# Altium schematic symbol library 691 243 300 0xx.SchLib: 8 symbols
Pins are listed as number, name and electrical type; pins without a type are passive.

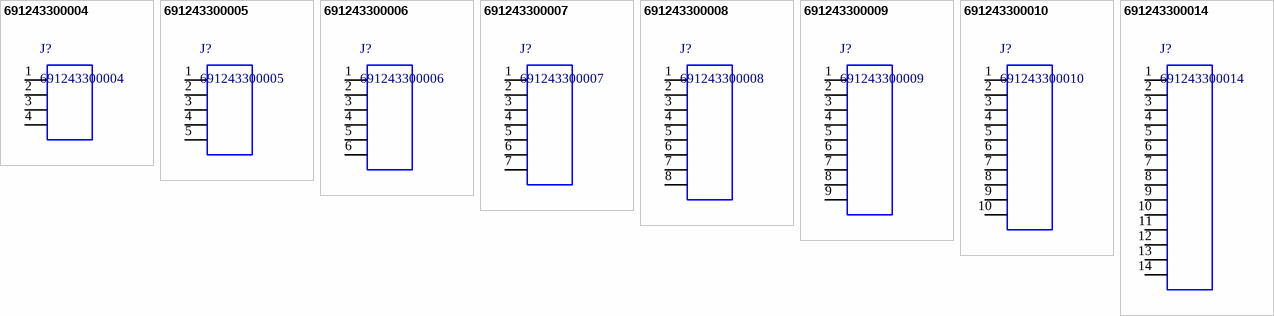
[diagram p0: symbols 691243300004 to 691243300014]

## 691243300004
designator J?
WR-TBL Vertical Cable Entry With Rising Cage Clamp,Serie 2433 - 3.81 mm; Manufacturer: Wurth Elektronik; ComponentLink1 Description: Manufacturer; ComponentLink2 Description: Datasheet; ComponentLink1URL: http://www.we-online.de; ComponentLink2URL: http://katalog.we-online.de/em/datasheet/6912433000XX.pdf; Created by: Baojun Chen; Created Date: 9.Sep.2015; partNo: 691243300004
footprint 691243300004 (Serie 2433 - 3.81 mm _ 4 pins)
pins: 1, 2, 3, 4

## 691243300005
designator J?
WR-TBL Vertical Cable Entry With Rising Cage Clamp,Serie 2433 - 3.81 mm; Manufacturer: Wurth Elektronik; ComponentLink1 Description: Manufacturer; ComponentLink2 Description: Datasheet; ComponentLink1URL: http://www.we-online.de; ComponentLink2URL: http://katalog.we-online.de/em/datasheet/6912433000XX.pdf; Created by: Baojun Chen; Created Date: 9.Sep.2015; partNo: 691243300005
footprint 691243300005 (Serie 2433 - 3.81 mm _ 5 pins)
pins: 1, 2, 3, 4, 5

## 691243300006
designator J?
WR-TBL Vertical Cable Entry With Rising Cage Clamp,Serie 2433 - 3.81 mm; Manufacturer: Wurth Elektronik; ComponentLink1 Description: Manufacturer; ComponentLink2 Description: Datasheet; ComponentLink1URL: http://www.we-online.de; ComponentLink2URL: http://katalog.we-online.de/em/datasheet/6912433000XX.pdf; Created by: Baojun Chen; Created Date: 9.Sep.2015; partNo: 691243300006
footprint 691243300006 (Serie 2433 - 3.81 mm _ 6 pins)
pins: 1, 2, 3, 4, 5, 6

## 691243300007
designator J?
WR-TBL Vertical Cable Entry With Rising Cage Clamp,Serie 2433 - 3.81 mm; Manufacturer: Wurth Elektronik; ComponentLink1 Description: Manufacturer; ComponentLink2 Description: Datasheet; ComponentLink1URL: http://www.we-online.de; ComponentLink2URL: http://katalog.we-online.de/em/datasheet/6912433000XX.pdf; Created by: Baojun Chen; Created Date: 9.Sep.2015; partNo: 691243300007
footprint 691243300007 (Serie 2433 - 3.81 mm _ 7 pins)
pins: 1, 2, 3, 4, 5, 6, 7

## 691243300008
designator J?
WR-TBL Vertical Cable Entry With Rising Cage Clamp,Serie 2433 - 3.81 mm; Manufacturer: Wurth Elektronik; ComponentLink1 Description: Manufacturer; ComponentLink2 Description: Datasheet; ComponentLink1URL: http://www.we-online.de; ComponentLink2URL: http://katalog.we-online.de/em/datasheet/6912433000XX.pdf; Created by: Baojun Chen; Created Date: 9.Sep.2015; partNo: 691243300008
footprint 691243300008 (Serie 2433 - 3.81 mm _ 8 pins)
pins: 1, 2, 3, 4, 5, 6, 7, 8

## 691243300009
designator J?
WR-TBL Vertical Cable Entry With Rising Cage Clamp,Serie 2433 - 3.81 mm; Manufacturer: Wurth Elektronik; ComponentLink1 Description: Manufacturer; ComponentLink2 Description: Datasheet; ComponentLink1URL: http://www.we-online.de; ComponentLink2URL: http://katalog.we-online.de/em/datasheet/6912433000XX.pdf; Created by: Baojun Chen; Created Date: 9.Sep.2015; partNo: 691243300009
footprint 691243300009 (Serie 2433 - 3.81 mm _ 9 pins)
pins: 1, 2, 3, 4, 5, 6, 7, 8, 9

## 691243300010
designator J?
WR-TBL Vertical Cable Entry With Rising Cage Clamp,Serie 2433 - 3.81 mm; Manufacturer: Wurth Elektronik; ComponentLink1 Description: Manufacturer; ComponentLink2 Description: Datasheet; ComponentLink1URL: http://www.we-online.de; ComponentLink2URL: http://katalog.we-online.de/em/datasheet/6912433000XX.pdf; Created by: Baojun Chen; Created Date: 9.Sep.2015; partNo: 691243300010
footprint 691243300010 (Serie 2433 - 3.81 mm _ 10 pins)
pins: 1, 2, 3, 4, 5, 6, 7, 8, 9, 10

## 691243300014
designator J?
WR-TBL Vertical Cable Entry With Rising Cage Clamp,Serie 2433 - 3.81 mm; Manufacturer: Wurth Elektronik; ComponentLink1 Description: Manufacturer; ComponentLink2 Description: Datasheet; ComponentLink1URL: http://www.we-online.de; ComponentLink2URL: http://katalog.we-online.de/em/datasheet/6912433000XX.pdf; Created by: Baojun Chen; Created Date: 9.Sep.2015; partNo: 691243300014
footprint 691243300014 (Serie 2433 - 3.81 mm _ 14 pins)
pins: 1, 2, 3, 4, 5, 6, 7, 8, 9, 10, 11, 12, 13, 14